# Altium schematic symbol library BJT-NPN-Small.SchLib: 1 symbol
Pins are listed as number, name and electrical type; pins without a type are passive.

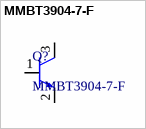
[diagram p0: symbol MMBT3904-7-F]

## MMBT3904-7-F
designator Q?
Bipolar (BJT) Transistor NPN 40 V 200 mA 300MHz 300 mW Surface Mount SOT-23-3; Volt: 40V; Supplier 1: Digi-Key; Supplier Part Number 1: MMBT3904-FDITR-ND; Package / Case: SOT-23-3; Mounted: Yes; ComponentLink1Description: DataSheet; ComponentLink1URL: https://www.diodes.com/assets/Datasheets/MMBT3904.pdf
footprint SOT-23-3 (SOT23-6, from TI DBZ (R-PDSO-G3))
pins: 1, 2, 3